# Altium schematic symbol library SW-DIP4.Schlib: 1 symbol
Pins are listed as number, name and electrical type; pins without a type are passive.

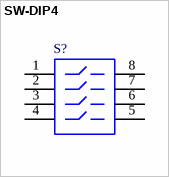
[diagram p0: symbol SW-DIP4]

## SW-DIP4
designator S?
DIP Switch
pins: 1, 2, 3, 4, 5, 6, 7, 8